# Altium schematic symbol library HW_ADHERENT_NFC_R1_L3.SchLib: 1628 symbols (part 16 of 31)
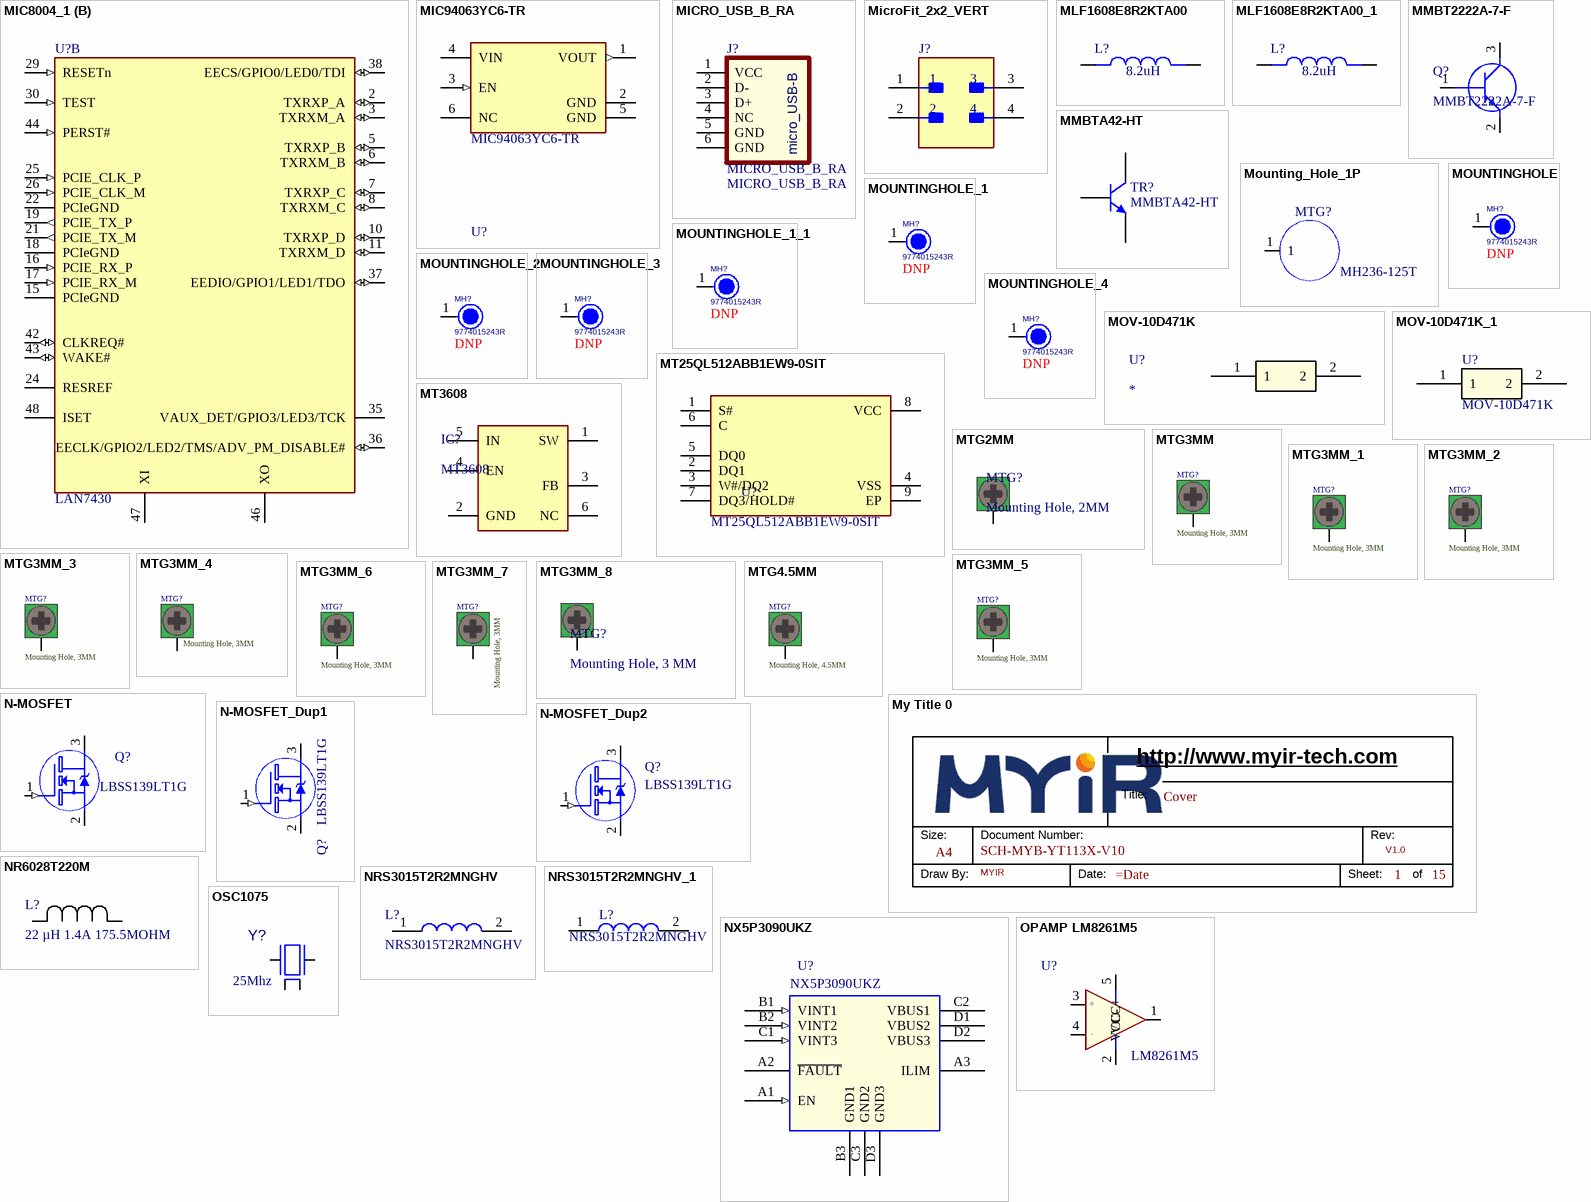
[diagram p65: symbols MIC8004_1 to OSC1075]

## My Title 0
designator *?  Page Count: 15  Page Number: 1  Page Size: A4  Title: SCH-MYB-YT113X-V10  RevCode: V1.0  Doc: Cover  Drawing: MYIR  (hidden comment: My Title 0)  (graphical)
Company: ÓÅÁú¿Æ¼¼; Page Create Date: May 29, 2006; WebSite: http://www.ucdragon.com; Page Modify Date: =Date
text: http://www.myir-tech.com; Title:; Size:; Document Number:; Rev:; Draw By:; Date:; Sheet:; of

## N-MOSFET
designator Q?, comment LBSS139LT1G
Mosfet,N-Channel,50V,0.2A,SMD,SOT-23,LRC; Myir P/N: 20703.00012; Part Type: Mosfet; Manufacturer: LRC; Manufacturer P/N: LBSS139LT1G; Reserve Value: LBSS139LT1G; Datasheet: LBSS139LT1G.pdf; PCB Footprint: SOT-23
footprint SOT23T02
footprint SOT-23
pins: 1 G (in), 2 S, 3 D (oc)

## N-MOSFET_Dup1
designator Q?, comment LBSS139LT1G
Mosfet,N-Channel,50V,0.2A,SMD,SOT-23,LRC; Myir P/N: 20703.00012; PCB Footprint: SOT-23; Datasheet: LBSS139LT1G.pdf; Reserve Value: LBSS139LT1G; Manufacturer P/N: LBSS139LT1G; Manufacturer: LRC; Part Type: Mosfet
footprint SOT23T02
footprint SOT-23
pins: 1 G (in), 2 S, 3 D (oc)

## N-MOSFET_Dup2
designator Q?, comment LBSS139LT1G
Mosfet,N-Channel,50V,0.2A,SMD,SOT-23,LRC; Myir P/N: 20703.00012; Part Type: Mosfet; Manufacturer: LRC; Manufacturer P/N: LBSS139LT1G; Reserve Value: LBSS139LT1G; Datasheet: LBSS139LT1G.pdf; PCB Footprint: SOT-23
footprint SOT23T02
footprint SOT-23
pins: 1 G (in), 2 S, 3 D (oc)

## NR6028T220M
designator L?, comment 22 µH 1.4A 175.5MOHM
22 µH Semi-Shielded Drum Core, Wirewound Inductor 1.4 A 175.5mOhm Max Nonstandard; Manufacturer_Name: Taiyo Yuden; Manufacturer_Part_Number: NR6028T220M; Copyright: Copyright (C) 2025 Ultra Librarian. All rights reserved.
footprint IND_TAIYO_NR6028_TAY
pins: 1, 2

## NRS3015T2R2MNGHV
designator L?
2.2 µH Shielded Drum Core, Wirewound Inductor 1.5 A 58mOhm Max Nonstandard; Manufacturer_Name: TAIYO YUDEN; Datasheet Link: https://componentsearchengine.com/Datasheets/1/NRS3015T2R2MNGHV.pdf; Height: 1.5mm; Manufacturer_Part_Number: NRS3015T2R2MNGHV; Mouser Part Number: 963-NRS3015T2R2MNGHV; Mouser Price/Stock: https://www.mouser.co.uk/ProductDetail/TAIYO-YUDEN/NRS3015T2R2MNGHV?qs=DpxmIIQLg%252BP8UFyXVw61Xw%3D%3D; Arrow Part Number: NRS3015T2R2MNGHV; Arrow Price/Stock: https://www.arrow.com/en/products/nrs3015t2r2mnghv/taiyo-yuden?region=nac
footprint NRS3015T2R2MNGHV
pins: 1, 2

## NRS3015T2R2MNGHV_1
designator L?, comment NRS3015T2R2MNGHV
2.2 µH Shielded Drum Core, Wirewound Inductor 1.5 A 58mOhm Max Nonstandard; Manufacturer_Name: TAIYO YUDEN; Datasheet Link: https://componentsearchengine.com/Datasheets/1/NRS3015T2R2MNGHV.pdf; Height: 1.5mm; Manufacturer_Part_Number: NRS3015T2R2MNGHV; Mouser Part Number: 963-NRS3015T2R2MNGHV; Mouser Price/Stock: https://www.mouser.co.uk/ProductDetail/TAIYO-YUDEN/NRS3015T2R2MNGHV?qs=DpxmIIQLg%252BP8UFyXVw61Xw%3D%3D; Arrow Part Number: NRS3015T2R2MNGHV; Arrow Price/Stock: https://www.arrow.com/en/products/nrs3015t2r2mnghv/taiyo-yuden?region=nac
footprint NRS3015T2R2MNGHV
pins: 1, 2

## NX5P3090UKZ
designator U?
IC,USB PD and type C current-limited power switch,SMD,WLCSP12,X5PT2,NXP; Myir P/N: 20105.00023; CLASS: IC; Part Type: Logic; Manufacturer: NXP; Manufacturer P/N: NX5P3090UKZ; Reserve Value: NX5P3090UKZ; Datasheet: NX5P3090.pdf; PCB Footprint: WLCSP12
footprint WLCSP12
pins: A1 EN (in), A2 ~{FAULT} (oc), A3 ILIM, B1 VINT1 (in), B2 VINT2 (in), B3 GND1 (power), C1 VINT3 (in), C2 VBUS1, C3 GND2 (power), D1 VBUS2, D2 VBUS3, D3 GND3 (power)

## OPAMP LM8261M5
designator U?, comment LM8261M5
Op-amp RR IO; Manufacturer: TI; Position: U?; Value: LM8261M5; Manufacturer Part Number: LM8261M5; Supplier Part Number: LM8261M5CT-ND
footprint SOT23-5
pins: 1 VOUT, 2 VCC-, 3 VIN+, 4 VIN-, 5 VCC+
text: +; -

## OSC1075
designator Y?, comment 25Mhz
CRYSTAL 25.0000MHZ 10PF SMD; Manufacturer: Abracon LLC; Manufacturer Part Number: ABM8G-25.000MHZ-4Y-T3; Value: 25Mhz; Revision: 1; Supplier Part Number: 535-10915-1-ND
footprint SMD 3.2x2.5x1mm (ABM8G-25.000MHZ-4Y-T3)
pins: 1 Osc1, 2 GND (power), 3 Osc2, 4 GND (power)
1 alternate drawing of the same symbol

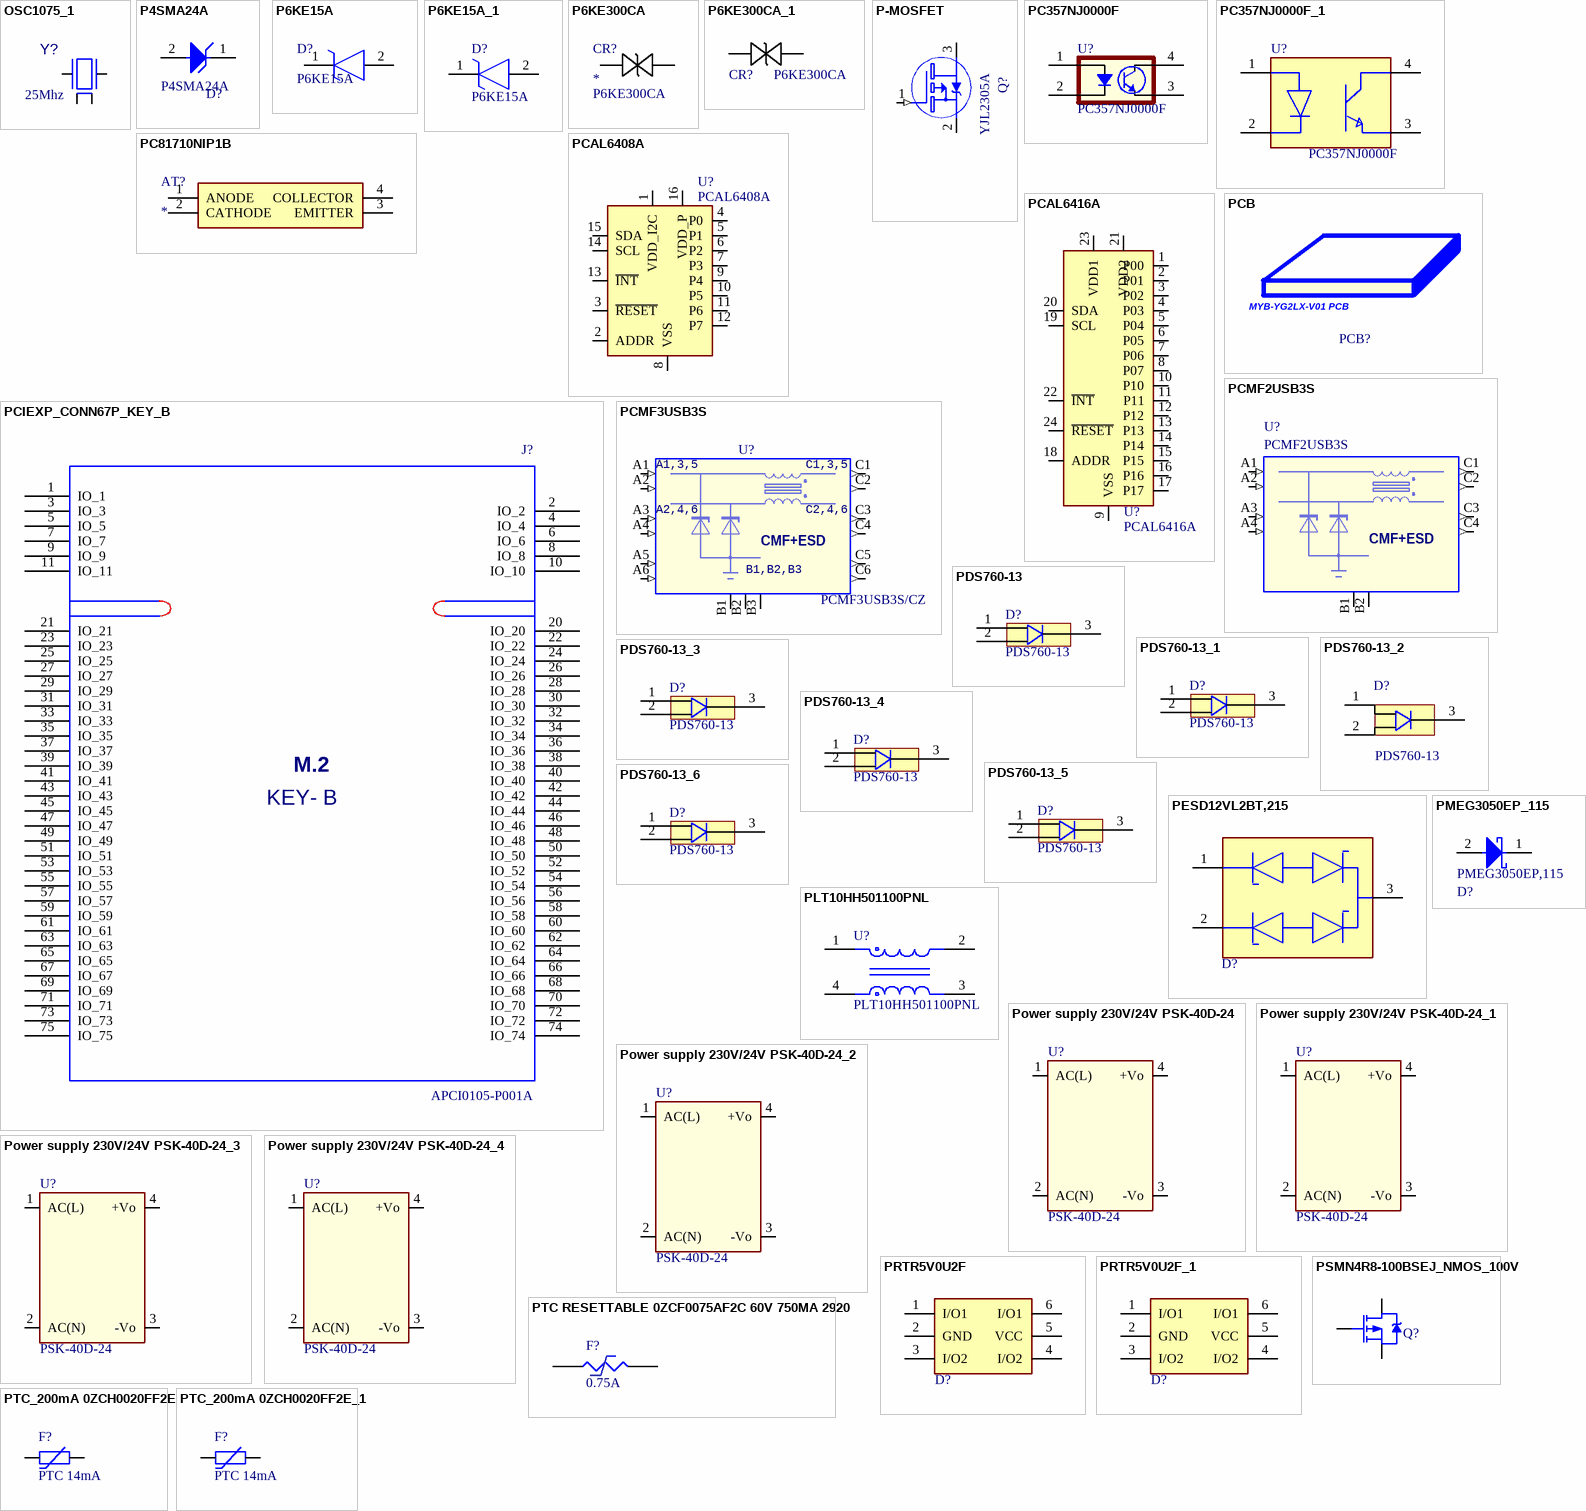
[diagram p30: symbols OSC1075_1 to PTC_200mA 0ZCH0020FF2E_1]

## OSC1075_1
designator Y?, comment 25Mhz
CRYSTAL 25.0000MHZ 10PF SMD; Manufacturer: Abracon LLC; Manufacturer Part Number: ABM8G-25.000MHZ-4Y-T3; Value: 25Mhz; Revision: 1; Supplier Part Number: 535-10915-1-ND
footprint SMD 3.2x2.5x1mm (ABM8G-25.000MHZ-4Y-T3)
pins: 1 Osc1, 2 GND (power), 3 Osc2, 4 GND (power)
1 alternate drawing of the same symbol

## P4SMA24A
designator D?, comment Manufacturer Part Number: P4SMA24A  (hidden comment: TVS DIODE 20.5VWM 33.2VC DO214AC)
33.2V Clamp 12.3A Ipp Tvs Diode Surface Mount DO-214AC (SMA); Order Code: DIGI: 18-P4SMA24ATR-ND
footprint Diodes_SMA_0
pins: 1 C, 2 A

## P6KE15A
designator D?
21.2V Clamp 28A Ipp Tvs Diode Through Hole DO-204AC (DO-15); Manufacturer_Name: STMicroelectronics; Datasheet Link: http://www.st.com/web/en/resource/technical/document/datasheet/CD00000720.pdf; Manufacturer_Part_Number: P6KE15A; Mouser Part Number: 511-P6KE15A; Mouser Price/Stock: https://www.mouser.co.uk/ProductDetail/STMicroelectronics/P6KE15A?qs=TGPpmpbSrT5hhHGF%252BJ4hqw%3D%3D; Arrow Part Number: P6KE15A; Arrow Price/Stock: https://www.arrow.com/en/products/p6ke15a/stmicroelectronics?region=nac
footprint DIOAD1936W88L640D324
pins: 1 K, 2 A

## P6KE15A_1
designator D?, comment P6KE15A
21.2V Clamp 28A Ipp Tvs Diode Through Hole DO-204AC (DO-15); Manufacturer_Name: STMicroelectronics; Datasheet Link: http://www.st.com/web/en/resource/technical/document/datasheet/CD00000720.pdf; Manufacturer_Part_Number: P6KE15A; Mouser Part Number: 511-P6KE15A; Mouser Price/Stock: https://www.mouser.co.uk/ProductDetail/STMicroelectronics/P6KE15A?qs=TGPpmpbSrT5hhHGF%252BJ4hqw%3D%3D; Arrow Part Number: P6KE15A; Arrow Price/Stock: https://www.arrow.com/en/products/p6ke15a/stmicroelectronics?region=nac
footprint DIOAD1936W88L640D324
pins: 1 K, 2 A

## P6KE300CA
designator CR?  MPN: P6KE300CA
No Description Available; Mfr_Name: STMicroelectronics
footprint DO-15B_STM
pins: 1, 2

## P6KE300CA_1
designator CR?, comment P6KE300CA
No Description Available; Mfr_Name: STMicroelectronics
footprint DO-15B_STM
pins: 1, 2

## P-MOSFET
designator Q?, comment YJL2305A
Mosfet,P-Channel,15V,70OHM,5.6A,SOT23,SMD,YangJie; RP2 Manufacturer P/N: PMV48XPA; RP1 Manufacturer P/N: IRLML6401TRPBF; RP2 Myir P/N: 20703.00014; RP1 Myir P/N: 20703.00005; Myir P/N: 20703.80039; PCB Footprint: SOT-23; Part Type: Mosfet; Manufacturer: YangJie; Manufacturer P/N: YJL2305A; Reserve Value: YJL2305A; Datasheet: YJL2305A.pdf
footprint SOT23T02
footprint SOT-23
pins: 1 G (in), 2 S, 3 D

## PC357NJ0000F
designator U?
Manufacturer: Socle Technology; Supplier 1: Digi-Key; Manufacturer Part Number: PC357NJ0000F; RoHS: No; Stock 1: 22388; Pricing 1: 1=0,83000, 10=0,53800, 100=0,35270, 1000=0,27841 (USD); Supplier Part Number 1: 1855-1023-1-ND
footprint SOIC_1TJ00F_SHP
pins: 1, 2, 3, 4

## PC357NJ0000F_1
designator U?, comment Manufacturer Part Number: PC357NJ0000F  (hidden comment: OPTOISO 3.75KV TRANSISTOR 4BESOP)
Optoisolator Transistor Output 3750Vrms 1 Channel 4-SMD; Manufacturer: SHARP/Socle Technology
footprint Sharp_PC357NJ0000F_0
pins: 1 A, 2 C, 3 E, 4 C

## PC81710NIP1B
designator AT?
Attenuator or Isolator; Manufacturer_Name: Sharp Microelectronics; Manufacturer_Part_Number: PC81710NIP1B; Datasheet Link: https://global.sharp/products/device/lineup/data/pdf/datasheet/PC8171xNSZ1B_e.pdf; Height: 4.2mm; Mouser Part Number: 852-PC81710NIP1B; Mouser Price/Stock: https://www.mouser.co.uk/ProductDetail/Sharp-Microelectronics/PC81710NIP1B?qs=MLItCLRbWswN8lAuXmPENg%3D%3D
footprint SOP254P960X420-4N
pins: 1 ANODE, 2 CATHODE, 3 EMITTER, 4 COLLECTOR

## PCAL6408A
designator U?
GPIO expander 8 IO; Manufacturer: NXP USA Inc.; Manufacturer Part Number: PCAL6408APWJ; Value: PCAL6408A; Supplier Part Number: 568-9921-1-ND
footprint TSSOP-16 (CHECKED BY NAME- 24FEB2020, CREATED BY: JE 400 040A)
pins: 1 VDD_I2C (power), 2 ADDR, 3 ~{RESET}, 4 P0, 5 P1, 6 P2, 7 P3, 8 VSS (power), 9 P4, 10 P5, 11 P6, 12 P7, 13 ~{INT}, 14 SCL, 15 SDA, 16 VDD_P (power)

## PCAL6416A
designator U?
GPIO expander 16 IO; Manufacturer: NXP; Manufacturer Part Number: PCAL6416AHF; Position: U?; Value: PCAL6416A; Supplier Part Number: 568-9946-1-ND
footprint HWQFN-24
pins: 1 P00, 2 P01, 3 P02, 4 P03, 5 P04, 6 P05, 7 P06, 8 P07, 9 VSS (power), 10 P10, 11 P11, 12 P12, 13 P13, 14 P14, 15 P15, 16 P16, 17 P17, 18 ADDR, 19 SCL, 20 SDA, 21 VDD2 (power), 22 ~{INT}, 23 VDD1 (power), 24 ~{RESET}

## PCB
designator PCB?, comment MYB-YG2LX-V01 PCB
PCB Footprint: id-board; Page: 31
footprint id-board

## PCIEXP_CONN67P_KEY_B
designator J?, comment APCI0105-P001A
Board Connector,M.2 B-KEY, M.2 Connectors, Connector Height 4.2 mm, Gold, Board-to-Board, 67 Position, 0.5mm,Lotes; CLASS: IO; Myir P/N: 21110.00027; PCB Footprint: CONN-2199230-3; Datasheet: APCI0105-H=4.2(B KEY) .pdf; Reserve Value: APCI0105-P001A; Manufacturer P/N: APCI0105-P001A; Manufacturer: Lotes; Part Type: Board Connector
footprint CONN-2199230-3
pins: 1 IO_1, 2 IO_2, 3 IO_3, 4 IO_4, 5 IO_5, 6 IO_6, 7 IO_7, 8 IO_8, 9 IO_9, 10 IO_10, 11 IO_11, 20 IO_20, 21 IO_21, 22 IO_22, 23 IO_23, 24 IO_24, 25 IO_25, 26 IO_26, 27 IO_27, 28 IO_28, 29 IO_29, 30 IO_30, 31 IO_31, 32 IO_32, 33 IO_33, 34 IO_34, 35 IO_35, 36 IO_36, 37 IO_37, 38 IO_38, 39 IO_39, 40 IO_40, 41 IO_41, 42 IO_42, 43 IO_43, 44 IO_44, 45 IO_45, 46 IO_46, 47 IO_47, 48 IO_48, 49 IO_49, 50 IO_50, 51 IO_51, 52 IO_52, 53 IO_53, 54 IO_54, 55 IO_55, 56 IO_56, 57 IO_57, 58 IO_58, 59 IO_59, 60 IO_60, 61 IO_61, 62 IO_62, 63 IO_63, 64 IO_64, 65 IO_65, 66 IO_66, 67 IO_67, 68 IO_68, 69 IO_69, 70 IO_70, 71 IO_71, 72 IO_72, 73 IO_73, 74 IO_74, 75 IO_75
text: M.2; KEY- B

## PCMF2USB3S
designator U?
IC,Common-mode EMI filter for 2 channels with integrated ESD protection,SMD,WLCSP10,PF2S,NXP; Myir P/N: 20114.00011; CLASS: IC; Datasheet: PCMFxUSB3S.pdf; Reserve Value: PCMF2USB3S; Manufacturer P/N: PCMF2USB3S; Manufacturer: NXP; Part Type: Protection; PCB Footprint: WLCSP10
footprint WLCSP10
pins: A1 CH1_IN+ (in), A2 CH1_IN- (in), A3 CH2_IN+ (in), A4 CH2_IN- (in), B1 GND_CH1 (power), B2 GND_CH2 (power), C1 CH1_OUT+ (out), C2 CH1_OUT- (out), C3 CH2_OUT+ (out), C4 CH2_OUT- (out)
text: CMF+ESD

## PCMF3USB3S
designator U?, comment PCMF3USB3S/CZ
IC,Common-mode EMI filter for 3 channels with integrated ESD protection,SMD,WLCSP15,PF3S,NXP; Myir P/N: 20114.00010; CLASS: IC; Part Type: Protection; Manufacturer: NXP; Manufacturer P/N: PCMF3USB3S/CZ; Reserve Value: PCMF3USB3S/CZ; Datasheet: PCMFxUSB3S.pdf; PCB Footprint: WLCSP15
footprint WLCSP15
pins: A1 CH1_IN+ (in), A2 CH1_IN- (in), A3 CH2_IN+ (in), A4 CH2_IN- (in), A5 CH3_IN+ (in), A6 CH3_IN- (in), B1 GND_CH1 (power), B2 GND_CH2 (power), B3 GND_CH3 (power), C1 CH1_OUT+ (out), C2 CH1_OUT- (out), C3 CH2_OUT+ (out), C4 CH2_OUT- (out), C5 CH3_OUT+ (out), C6 CH3_OUT- (out)
text: A1,3,5; C1,3,5; A2,4,6; C2,4,6; CMF+ESD; B1,B2,B3

## PDS760-13
designator D?, comment Manufacturer Part Number: PDS760-13  (hidden comment: DIODE SCHOTTKY 60V 7A POWERDI5)
Diode 60 V 7A Surface Mount PowerDI™ 5; Order Code: Digi: PDS760DITR-ND; LCSC Manufacturer Part Number: PDS760-13; LCSC Part Number: C96113
footprint POWERDI5
pins: 1 LEFT_PIN, 2 RIGHT_PIN, 3 BOTTOMSIDE_HEAT_SINK

## PDS760-13_1
designator D?, comment Manufacturer Part Number: PDS760-13  (hidden comment: DIODE SCHOTTKY 60V 7A POWERDI5)
Diode 60 V 7A Surface Mount PowerDI™ 5; Order Code: Digi: PDS760DITR-ND; LCSC Manufacturer Part Number: PDS760-13; LCSC Part Number: C96113
footprint POWERDI5
pins: 1 LEFT_PIN, 2 RIGHT_PIN, 3 BOTTOMSIDE_HEAT_SINK

## PDS760-13_2
designator D?, comment Manufacturer Part Number: PDS760-13  (hidden comment: DIODE SCHOTTKY 60V 7A POWERDI5)
Diode 60 V 7A Surface Mount PowerDI™ 5; Order Code: Digi: PDS760DITR-ND; LCSC Manufacturer Part Number: PDS760-13; LCSC Part Number: C96113
footprint POWERDI5
pins: 1 LEFT_PIN, 2 RIGHT_PIN, 3 BOTTOMSIDE_HEAT_SINK

## PDS760-13_3
designator D?, comment Manufacturer Part Number: PDS760-13  (hidden comment: DIODE SCHOTTKY 60V 7A POWERDI5)
Diode 60 V 7A Surface Mount PowerDI™ 5; Order Code: Digi: PDS760DITR-ND; LCSC Manufacturer Part Number: PDS760-13; LCSC Part Number: C96113
footprint POWERDI5
pins: 1 LEFT_PIN, 2 RIGHT_PIN, 3 BOTTOMSIDE_HEAT_SINK

## PDS760-13_4
designator D?, comment Manufacturer Part Number: PDS760-13  (hidden comment: DIODE SCHOTTKY 60V 7A POWERDI5)
Diode 60 V 7A Surface Mount PowerDI™ 5; Order Code: Digi: PDS760DITR-ND; LCSC Manufacturer Part Number: PDS760-13; LCSC Part Number: C96113
footprint POWERDI5
pins: 1 LEFT_PIN, 2 RIGHT_PIN, 3 BOTTOMSIDE_HEAT_SINK

## PDS760-13_5
designator D?, comment Manufacturer Part Number: PDS760-13  (hidden comment: DIODE SCHOTTKY 60V 7A POWERDI5)
Diode 60 V 7A Surface Mount PowerDI™ 5; Order Code: Digi: PDS760DITR-ND; LCSC Manufacturer Part Number: PDS760-13; LCSC Part Number: C96113
footprint POWERDI5
pins: 1 LEFT_PIN, 2 RIGHT_PIN, 3 BOTTOMSIDE_HEAT_SINK

## PDS760-13_6
designator D?, comment Manufacturer Part Number: PDS760-13  (hidden comment: DIODE SCHOTTKY 60V 7A POWERDI5)
Diode 60 V 7A Surface Mount PowerDI™ 5; Order Code: Digi: PDS760DITR-ND; LCSC Manufacturer Part Number: PDS760-13; LCSC Part Number: C96113
footprint POWERDI5
pins: 1 LEFT_PIN, 2 RIGHT_PIN, 3 BOTTOMSIDE_HEAT_SINK

## PESD12VL2BT,215
designator D?  (value not drawn)
37V Clamp 5A (8/20µs) Ipp Tvs Diode Surface Mount TO-236AB; Manufacturer: Nexperia USA Inc.; Manufacturer Part Number: PESD12VL2BT,215; Voltage - Clamping (Max) @ Ipp: 37V; Current - Peak Pulse (10/1000µs): 5A
footprint Nexperia_SOT23_0
pins: 1 cathode 1, 2 cathode 2, 3 double cathode

## PLT10HH501100PNL
designator U?
2 Line Common Mode Choke Surface Mount 500 Ohms @ 10 MHz 10A DCR 4.1mOhm; Manufacturer Name: Murata Electronics; Voltage Rating - DC: 100V; Manufacturer Part Number: PLT10HH501100PNL; Impedance @ Frequency: 500Ohms@10MHz; Current Rating (Max): 10A
footprint Murata_PLT10HN_MFG
pins: 1, 2, 3, 4

## PMEG3050EP_115
designator D?, comment Manufacturer Part Number: PMEG3050EP,115  (hidden comment: DIODE SCHOTTKY 30V 5A SOD128)
Diode 30 V 5A Surface Mount SOD-128/CFP5; Order Code: DIGI: 1727-5317-2-ND
footprint Nexperia_SOD128_MFG
pins: 1 C, 2 A

## Power supply 230V/24V PSK-40D-24
designator U?, comment PSK-40D-24
AC-DC, 40W, 24 VDC, SINGLE OUTPU; Manufacturer: CUI Inc.; Manufacturer Part Number: PSK-40D-24; Supplier Part Number: 102-PSK-40D-24-ND; Value: PSK-40D-24
footprint PSK-40D-24
pins: 1 AC(L), 2 AC(N), 3 -Vo, 4 +Vo

## Power supply 230V/24V PSK-40D-24_1
designator U?, comment PSK-40D-24
AC-DC, 40W, 24 VDC, SINGLE OUTPU; Manufacturer: CUI Inc.; Manufacturer Part Number: PSK-40D-24; Supplier Part Number: 102-PSK-40D-24-ND; Value: PSK-40D-24
footprint PSK-40D-24
pins: 1 AC(L), 2 AC(N), 3 -Vo, 4 +Vo

## Power supply 230V/24V PSK-40D-24_2
designator U?, comment PSK-40D-24
AC-DC, 40W, 24 VDC, SINGLE OUTPU; Manufacturer: CUI Inc.; Manufacturer Part Number: PSK-40D-24; Supplier Part Number: 102-PSK-40D-24-ND; Value: PSK-40D-24
footprint PSK-40D-24
pins: 1 AC(L), 2 AC(N), 3 -Vo, 4 +Vo

## Power supply 230V/24V PSK-40D-24_3
designator U?, comment PSK-40D-24
AC-DC, 40W, 24 VDC, SINGLE OUTPU; Manufacturer: CUI Inc.; Manufacturer Part Number: PSK-40D-24; Supplier Part Number: 102-PSK-40D-24-ND; Value: PSK-40D-24
footprint PSK-40D-24
pins: 1 AC(L), 2 AC(N), 3 -Vo, 4 +Vo

## Power supply 230V/24V PSK-40D-24_4
designator U?, comment PSK-40D-24
AC-DC, 40W, 24 VDC, SINGLE OUTPU; Manufacturer: CUI Inc.; Manufacturer Part Number: PSK-40D-24; Supplier Part Number: 102-PSK-40D-24-ND; Value: PSK-40D-24
footprint PSK-40D-24
pins: 1 AC(L), 2 AC(N), 3 -Vo, 4 +Vo

## PRTR5V0U2F
designator D?, comment SON-6(1x1.5) ESD Protection Devices ROHS  (value not drawn)
Manufacturer Part Number: PRTR5V0U2F; Order Code: LCSC: C2937001; LCSC Manufacturer Part Number: PRTR5V0U2F; LCSC Part Number: C2937001
footprint Nexperia_SOT886_MFG
pins: 1 I/O1, 2 GND, 3 I/O2, 4 I/O2, 5 VCC (power), 6 I/O1

## PRTR5V0U2F_1
designator D?, comment SON-6(1x1.5) ESD Protection Devices ROHS  (value not drawn)
Manufacturer Part Number: PRTR5V0U2F; Order Code: LCSC: C2937001; LCSC Manufacturer Part Number: PRTR5V0U2F; LCSC Part Number: C2937001
footprint Nexperia_SOT886_MFG
pins: 1 I/O1, 2 GND (power), 3 I/O2, 4 I/O2, 5 VCC (power), 6 I/O1

## PSMN4R8-100BSEJ_NMOS_100V
designator Q?, comment 100V 120A  (value not drawn)
MOSFET N-CH 100V D2PAK; Manufacturer Part Number: PSMN4R8-100BSEJ; Order Code: DIGI : 1727-1103-1-ND; Value: 100V 120A
footprint TO263-2
pins: 1 G, 2 D, 3 S

## PTC RESETTABLE 0ZCF0075AF2C 60V 750MA 2920
designator F?  value 0.75A  (hidden comment: PTC RESETTABLE 0ZCF0075AF2C 60V 750MA 2920)
Manufacturer: FUZETEC; Manufacturer Part Name: FSMD075-60-2920-R; Package Reference: 2920; Supplier: Ozdisan; Supplier No: FSMD075-60-2920-R
footprint 0ZCF_FUSE
pins: 1, 2

## PTC_200mA 0ZCH0020FF2E
designator F?, comment PTC 14mA
PTC RESET FUSE 24V 14MA 0603; Manufacturer: Murata Electronics; Manufacturer Part Number: PRG18BB221MB1RB; Position: F?; Value: PTC 14mA; Supplier Part Number: 490-2470-1-ND
footprint 1210_F (0ZCH0020FF2E)
footprint 0603_F
pins: 1, 2

## PTC_200mA 0ZCH0020FF2E_1
designator F?, comment value PTC 14mA  (hidden comment: PTC 750mA)
PTC RESET FUSE 24V 14MA 0603; Manufacturer: Murata Electronics; Manufacturer Part Number: PRG18BB221MB1RB; Position: F?; Supplier Part Number: 490-2470-1-ND
footprint 1210_F (0ZCH0020FF2E)
footprint 0603_F
pins: 1, 2

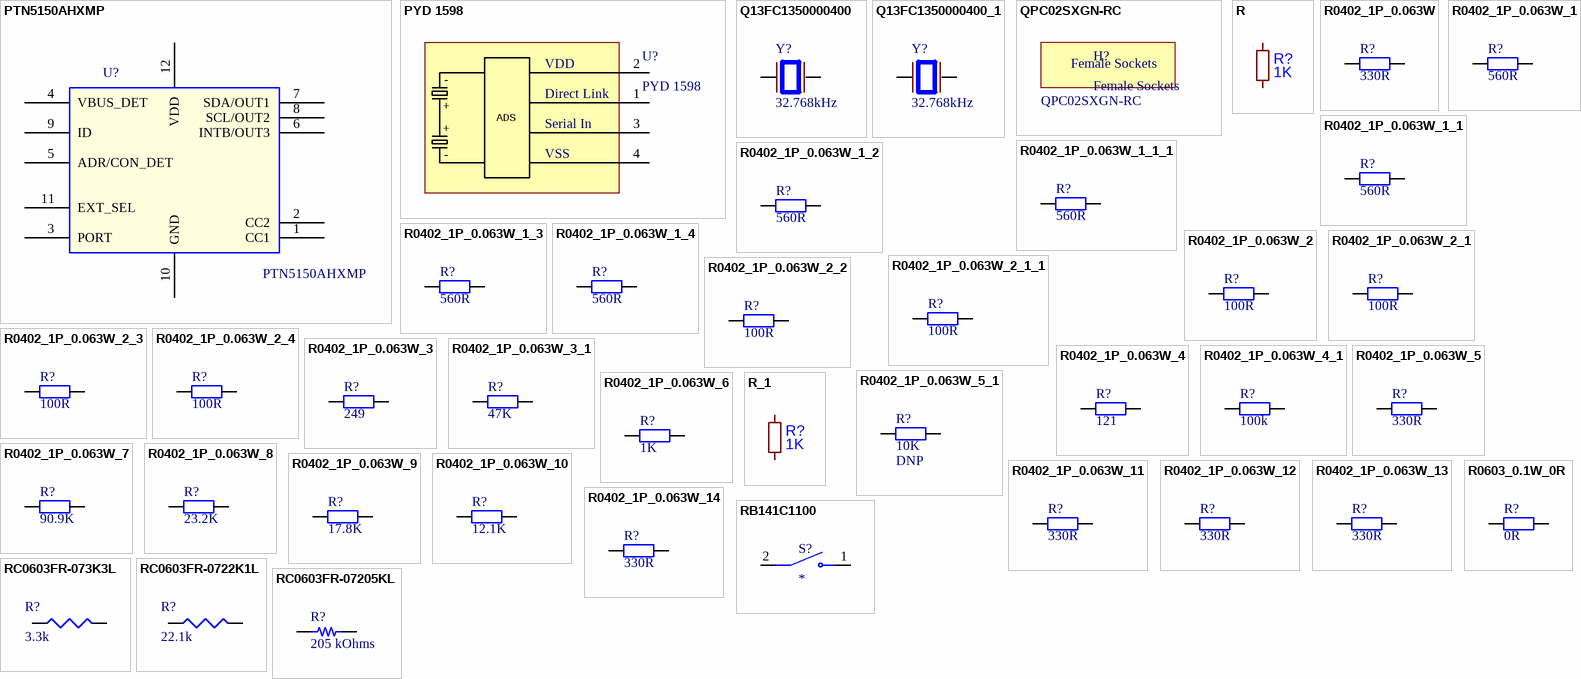
[diagram p31: symbols PTN5150AHXMP to RC0603FR-07205KL]

## PTN5150AHXMP
designator U?
IC,CC logic for USB Type-C applications,SMD,XFQFN12,50,NXP; Myir P/N: 20105.00024; PCB Footprint: x2qfn12; CLASS: IC; Datasheet: PTN5150.pdf; Reserve Value: PTN5150AHXMP; Manufacturer P/N: PTN5150AHXMP; Manufacturer: NXP; Part Type: Logic
footprint x2qfn12
pins: 1 CC1, 2 CC2, 3 PORT, 4 VBUS_DET, 5 ADR/CON_DET, 6 INTB/OUT3, 7 SDA/OUT1, 8 SCL/OUT2, 9 ID, 10 GND, 11 EXT_SEL, 12 VDD

## PYD 1598
designator U?
PYD 1598 / 7655 / 285°C temperature and a maximum of 5 seconds.; Manufacturer_Name: Excelitas Technology; Copyright: Copyright (C) 2025 Ultra Librarian. All rights reserved.; Manufacturer_Part_Number: PYD 1598 / 7655; RefDes: RefDes; Type: Type
footprint SENSE4_PYD 1598_EXT
pins: 1, 2, 3, 4
text: VDD; -; +; Direct Link; ADS; Serial In; VSS

## Q13FC1350000400
designator Y?, comment value 32.768kHz  (hidden comment: SEIKO 3215 32.768kHz CRSYTAL)
32.768kHz 12.5pF ±20ppm SMD3215-2P Crystals ROHS; Manufacturer Part Number: Q13FC1350000400; Order Code: LCSC: C32346; LCSC Manufacturer Part Number: Q13FC1350000400; LCSC Part Number: C32346
footprint XTAL_ABS07-32.768KHZ-T
pins: 1, 2

## Q13FC1350000400_1
designator Y?, comment value 32.768kHz  (hidden comment: SEIKO 3215 32.768kHz CRSYTAL)
32.768kHz 12.5pF ±20ppm SMD3215-2P Crystals ROHS; Manufacturer Part Number: Q13FC1350000400; Order Code: LCSC: C32346; LCSC Manufacturer Part Number: Q13FC1350000400; LCSC Part Number: C32346
footprint XTAL_ABS07-32.768KHZ-T
pins: 1, 2

## QPC02SXGN-RC
designator H?, comment Female Sockets  Manufacturer Part Number: QPC02SXGN-RC
Please attach it to the male 2-pin jumper header.
footprint QPC02SXGN-RC

## R
designator R?, comment 1K
RES 1K OHM 1% 1/16W 0402; Manufacturer: Yageo; Manufacturer Part Number: RC0402FR-071KL; Value: 1K; Footprint: Resistor_SMD:R_0402_1005Metric; Supplier Part Number: 311-1.00KLRCT-ND
footprint 0402_R (MODIFIED BY DN_MH - 16JAN17;CHECKED BY DN_TN - 18JAN17;CHECKED BY DN_QN - 20FEB19)
pins: 1, 2

## R0402_1P_0.063W
designator R?, comment 330R
RES 330 OHM 1% 1/16W 0402; Manufacturer: YAGEO; Manufacturer Part Number: RC0402FR-07330RL; Value: 330R; Supplier Part Number: 311-330LRCT-ND
footprint 0402_R (MODIFIED BY DN_MH - 16JAN17;CHECKED BY DN_TN - 18JAN17;CHECKED BY DN_QN - 20FEB19)
pins: 1, 2

## R0402_1P_0.063W_1
designator R?, comment 560R
RES 560 OHM 1% 1/16W 0402; Manufacturer: Yageo; Manufacturer Part Number: RC0402FR-07560RL; Value: 560R; Supplier Part Number: 311-560LRCT-ND
footprint 0402_R (MODIFIED BY DN_MH - 16JAN17;CHECKED BY DN_TN - 18JAN17;CHECKED BY DN_QN - 20FEB19)
pins: 1, 2

## R0402_1P_0.063W_1_1
designator R?, comment 560R
RES 560 OHM 1% 1/16W 0402; Manufacturer: Yageo; Manufacturer Part Number: RC0402FR-07560RL; Value: 560R; Supplier Part Number: 311-560LRCT-ND
footprint 0402_R (MODIFIED BY DN_MH - 16JAN17;CHECKED BY DN_TN - 18JAN17;CHECKED BY DN_QN - 20FEB19)
pins: 1, 2

## R0402_1P_0.063W_1_1_1
designator R?, comment 560R
RES 560 OHM 1% 1/16W 0402; Manufacturer: Yageo; Manufacturer Part Number: RC0402FR-07560RL; Value: 560R; Supplier Part Number: 311-560LRCT-ND
footprint 0402_R (MODIFIED BY DN_MH - 16JAN17;CHECKED BY DN_TN - 18JAN17;CHECKED BY DN_QN - 20FEB19)
pins: 1, 2

## R0402_1P_0.063W_1_2
designator R?, comment 560R
RES 560 OHM 1% 1/16W 0402; Manufacturer: Yageo; Manufacturer Part Number: RC0402FR-07560RL; Value: 560R; Supplier Part Number: 311-560LRCT-ND
footprint 0402_R (MODIFIED BY DN_MH - 16JAN17;CHECKED BY DN_TN - 18JAN17;CHECKED BY DN_QN - 20FEB19)
pins: 1, 2

## R0402_1P_0.063W_1_3
designator R?, comment 560R
RES 560 OHM 1% 1/16W 0402; Manufacturer: Yageo; Manufacturer Part Number: RC0402FR-07560RL; Value: 560R; Supplier Part Number: 311-560LRCT-ND
footprint 0402_R (MODIFIED BY DN_MH - 16JAN17;CHECKED BY DN_TN - 18JAN17;CHECKED BY DN_QN - 20FEB19)
pins: 1, 2

## R0402_1P_0.063W_1_4
designator R?, comment 560R
RES 560 OHM 1% 1/16W 0402; Manufacturer: Yageo; Manufacturer Part Number: RC0402FR-07560RL; Supplier Part Number: 311-560LRCT-ND; Value: 560R
footprint 0402_R (MODIFIED BY DN_MH - 16JAN17;CHECKED BY DN_TN - 18JAN17;CHECKED BY DN_QN - 20FEB19)
pins: 1, 2

## R0402_1P_0.063W_2
designator R?, comment 100R
RES 100 OHM 1% 1/16W 0402; Manufacturer: Yageo; Manufacturer Part Number: RC0402FR-07100RL; Supplier Part Number: 311-100LRCT-ND; Value: 100R
footprint 0402_R (MODIFIED BY DN_MH - 16JAN17;CHECKED BY DN_TN - 18JAN17;CHECKED BY DN_QN - 20FEB19)
pins: 1, 2

## R0402_1P_0.063W_2_1
designator R?, comment 100R
RES 100 OHM 1% 1/16W 0402; Manufacturer: Yageo; Manufacturer Part Number: RC0402FR-07100RL; Value: 100R; Supplier Part Number: 311-100LRCT-ND
footprint 0402_R (MODIFIED BY DN_MH - 16JAN17;CHECKED BY DN_TN - 18JAN17;CHECKED BY DN_QN - 20FEB19)
pins: 1, 2

## R0402_1P_0.063W_2_1_1
designator R?, comment 100R
RES 100 OHM 1% 1/16W 0402; Manufacturer: Yageo; Manufacturer Part Number: RC0402FR-07100RL; Value: 100R; Supplier Part Number: 311-100LRCT-ND
footprint 0402_R (MODIFIED BY DN_MH - 16JAN17;CHECKED BY DN_TN - 18JAN17;CHECKED BY DN_QN - 20FEB19)
pins: 1, 2

## R0402_1P_0.063W_2_2
designator R?, comment 100R
RES 100 OHM 1% 1/16W 0402; Manufacturer: Yageo; Manufacturer Part Number: RC0402FR-07100RL; Value: 100R; Supplier Part Number: 311-100LRCT-ND
footprint 0402_R (MODIFIED BY DN_MH - 16JAN17;CHECKED BY DN_TN - 18JAN17;CHECKED BY DN_QN - 20FEB19)
pins: 1, 2

## R0402_1P_0.063W_2_3
designator R?, comment 100R
RES 100 OHM 1% 1/16W 0402; Manufacturer: Yageo; Manufacturer Part Number: RC0402FR-07100RL; Value: 100R; Supplier Part Number: 311-100LRCT-ND
footprint 0402_R (MODIFIED BY DN_MH - 16JAN17;CHECKED BY DN_TN - 18JAN17;CHECKED BY DN_QN - 20FEB19)
pins: 1, 2

## R0402_1P_0.063W_2_4
designator R?, comment 100R
RES 100 OHM 1% 1/16W 0402; Manufacturer: Yageo; Manufacturer Part Number: RC0402FR-07100RL; Value: 100R; Supplier Part Number: 311-100LRCT-ND
footprint 0402_R (MODIFIED BY DN_MH - 16JAN17;CHECKED BY DN_TN - 18JAN17;CHECKED BY DN_QN - 20FEB19)
pins: 1, 2

## R0402_1P_0.063W_3
designator R?, comment value 249  (hidden comment: 241)
RES 249 OHM 1% 1/16W 0402; Manufacturer: Stackpole Electronics Inc; Manufacturer Part Number: RMCF0402FT249R; Supplier Part Number: RMCF0402FT249RCT-ND
footprint 0402_R (MODIFIED BY DN_MH - 16JAN17;CHECKED BY DN_TN - 18JAN17;CHECKED BY DN_QN - 20FEB19)
pins: 1, 2

## R0402_1P_0.063W_3_1
designator R?, comment 47K
RES 47K OHM 1% 1/16W 0402; Manufacturer: Yageo; Manufacturer Part Number: RC0402FR-0747KL; Value: 47K; Supplier Part Number: 311-47.0KLRCT-ND
footprint 0402_R (MODIFIED BY DN_MH - 16JAN17;CHECKED BY DN_TN - 18JAN17;CHECKED BY DN_QN - 20FEB19)
pins: 1, 2

## R0402_1P_0.063W_4
designator R?, comment 121
RES 121 OHM 1% 1/4W 1206; Manufacturer: Yageo; Manufacturer Part Number: RC1206FR-07121RL; Value: 121; Supplier Part Number: 311-121FRCT-ND
footprint 1206_R
pins: 1, 2

## R0402_1P_0.063W_4_1
designator R?, comment 100k
RES 100K OHM 1% 1/16W 0402; Manufacturer: Yageo; Manufacturer Part Number: RC0402FR-07100KL; Position: R?; Value: 100k; Supplier Part Number: 311-100KLRCT-ND
footprint 0402_R (MODIFIED BY DN_MH - 16JAN17;CHECKED BY DN_TN - 18JAN17;CHECKED BY DN_QN - 20FEB19)
pins: 1, 2

## R0402_1P_0.063W_5
designator R?, comment 330R
RES 330 OHM 1% 1/16W 0402; Manufacturer: YAGEO; Manufacturer Part Number: RC0402FR-07330RL; Value: 330R; Supplier Part Number: 311-330LRCT-ND
footprint 0402_R (MODIFIED BY DN_MH - 16JAN17;CHECKED BY DN_TN - 18JAN17;CHECKED BY DN_QN - 20FEB19)
pins: 1, 2

## R0402_1P_0.063W_5_1
designator R?, comment 10K
RES 10K OHM 1% 1/16W 0402; Manufacturer: Yageo; Manufacturer Part Number: RC0402FR-0710KL; Value: 10K; DNP: DNP; Supplier Part Number: 311-10.0KLRCT-ND
footprint 0402_R (MODIFIED BY DN_MH - 16JAN17;CHECKED BY DN_TN - 18JAN17;CHECKED BY DN_QN - 20FEB19)
pins: 1, 2

## R0402_1P_0.063W_6
designator R?, comment 1K
RES 1K OHM 1% 1/16W 0402; Manufacturer: Yageo; Manufacturer Part Number: RC0402FR-071KL; Value: 1K; Supplier Part Number: 311-1.00KLRCT-ND
footprint 0402_R (MODIFIED BY DN_MH - 16JAN17;CHECKED BY DN_TN - 18JAN17;CHECKED BY DN_QN - 20FEB19)
pins: 1, 2

## R0402_1P_0.063W_7
designator R?, comment 90.9K
RES 90.9K OHM 1% 1/16W 0402; Manufacturer: YAGEO; Manufacturer Part Number: RC0402FR-0790K9L; Value: 90.9K; Supplier Part Number: 311-90.9KLRCT-ND
footprint 0402_R (MODIFIED BY DN_MH - 16JAN17;CHECKED BY DN_TN - 18JAN17;CHECKED BY DN_QN - 20FEB19)
pins: 1, 2

## R0402_1P_0.063W_8
designator R?, comment 23.2K
RES 23.2K OHM 1% 1/16W 0402; Manufacturer: YAGEO; Manufacturer Part Number: RC0402FR-0723K2L; Supplier Part Number: YAG3066CT-ND
footprint 0402_R (MODIFIED BY DN_MH - 16JAN17;CHECKED BY DN_TN - 18JAN17;CHECKED BY DN_QN - 20FEB19)
pins: 1, 2

## R0402_1P_0.063W_9
designator R?, comment 17.8K
RES 17.8K OHM 1% 1/16W 0402; Manufacturer: RC0402FR-0717K8L; Manufacturer Part Number: RC0402FR-0717K8L; Supplier Part Number: YAG3012CT-ND
footprint 0402_R (MODIFIED BY DN_MH - 16JAN17;CHECKED BY DN_TN - 18JAN17;CHECKED BY DN_QN - 20FEB19)
pins: 1, 2

## R0402_1P_0.063W_10
designator R?, comment 12.1K
RES 12.1K OHM 1% 1/16W 0402; Manufacturer: YAGEO; Manufacturer Part Number: RC0402FR-0712K1L; Supplier Part Number: 311-12.1KLRCT-ND
footprint 0402_R (MODIFIED BY DN_MH - 16JAN17;CHECKED BY DN_TN - 18JAN17;CHECKED BY DN_QN - 20FEB19)
pins: 1, 2

## R0402_1P_0.063W_11
designator R?, comment 330R
RES 330 OHM 1% 1/16W 0402; Manufacturer: YAGEO; Manufacturer Part Number: RC0402FR-07330RL; Value: 330R; Supplier Part Number: 311-330LRCT-ND
footprint 0402_R (MODIFIED BY DN_MH - 16JAN17;CHECKED BY DN_TN - 18JAN17;CHECKED BY DN_QN - 20FEB19)
pins: 1, 2

## R0402_1P_0.063W_12
designator R?, comment 330R
RES 330 OHM 1% 1/16W 0402; Manufacturer: YAGEO; Manufacturer Part Number: RC0402FR-07330RL; Value: 330R; Supplier Part Number: 311-330LRCT-ND
footprint 0402_R (MODIFIED BY DN_MH - 16JAN17;CHECKED BY DN_TN - 18JAN17;CHECKED BY DN_QN - 20FEB19)
pins: 1, 2

## R0402_1P_0.063W_13
designator R?, comment 330R
RES 330 OHM 1% 1/16W 0402; Manufacturer: YAGEO; Manufacturer Part Number: RC0402FR-07330RL; Value: 330R; Supplier Part Number: 311-330LRCT-ND
footprint 0402_R (MODIFIED BY DN_MH - 16JAN17;CHECKED BY DN_TN - 18JAN17;CHECKED BY DN_QN - 20FEB19)
pins: 1, 2

## R0402_1P_0.063W_14
designator R?, comment 330R
RES 330 OHM 1% 1/16W 0402; Manufacturer: YAGEO; Manufacturer Part Number: RC0402FR-07330RL; Value: 330R; Supplier Part Number: 311-330LRCT-ND
footprint 0402_R (MODIFIED BY DN_MH - 16JAN17;CHECKED BY DN_TN - 18JAN17;CHECKED BY DN_QN - 20FEB19)
pins: 1, 2

## R0603_0.1W_0R
designator R?, comment 0R
RES 0 OHM JUMPER 1/16W 0402; Manufacturer: Yageo; Manufacturer Part Number: RC0402FR-070RL; Position: R?; Value: 0R; Supplier Part Number: 311-0.0LRCT-ND
footprint 0603_R (R0603)
footprint 0402_R
pins: 1, 2

## R_1
designator R?, comment 1K
RES 1K OHM 1% 1/16W 0402; Manufacturer: Yageo; Manufacturer Part Number: RC0402FR-071KL; Value: 1K; Footprint: Resistor_SMD:R_0402_1005Metric; Supplier Part Number: 311-1.00KLRCT-ND
footprint 0402_R (MODIFIED BY DN_MH - 16JAN17;CHECKED BY DN_TN - 18JAN17;CHECKED BY DN_QN - 20FEB19)
pins: 1, 2

## RB141C1100
designator S?
Rocker Switches 15A 125VAC, OFF-ON, Black Rocker, No Markings; MF: e-switch inc; MP: RB141C1100; SnapEDA_Link: https://www.snapeda.com/parts/RB141C1100/E-Switch/view-part/?ref=snap; Package: None; Value: *; Check_prices: https://www.snapeda.com/parts/RB141C1100/E-Switch/view-part/?ref=eda
footprint SW_RB141C1100
pins: 1, 2

## RC0603FR-073K3L
designator R?, comment 3.3k
3.3 kOhms ±1% 0.1W, 1/10W Chip Resistor 0603 (1608 Metric) Moisture Resistant Thick Film; Manufacturer Part Number: RC0603FR-073K3L; Supplier: 311-3.30KHRDKR-ND - Digi-Reel®
footprint RES0603
pins: 1, 2

## RC0603FR-0722K1L
designator R?, comment 22.1k
22.1 kOhms ±1% 0.1W, 1/10W Chip Resistor 0603 (1608 Metric) Moisture Resistant Thick Film
footprint RES0603
pins: 1, 2

## RC0603FR-07205KL
designator R?, comment 205 kOhms
RES 205K OHM 1% 1/10W 0603; Part Number: RC0603FR-07205KL; Manufacturer: Yageo; Power (Watts): 0.1W, 1/10W; Temperature Coefficient: ±100ppm/°C; Value: 205 kOhms; ComponentLink1Description: Datasheet; ComponentLink1URL: https://www.yageo.com/upload/media/product/productsearch/datasheet/rchip/PYu-RC_Group_51_RoHS_L_10.pdf; ComponentLink2Description: DigiKey Link; ComponentLink2URL: https://www.digikey.com/en/products/detail/yageo/RC0603FR-07205KL/727046; Composition: Thick Film; Device Package: 0603 (1608 Metric); Features: Moisture Resistant; Height - Seated (Max): 0.022" (0.55mm); LastUpdated: 2/9/2024 8:43:26 PM; Lifecycle Status: Active; Minimum Order: 1; Number of Terminations: 2; Operating Temperature: -55°C ~ 155°C; Package / Case: 0603 (1608 Metric); Packaging: CutTape; PartId: 7579; Part Status: Active; Price: 0.01; Resistance: 205 kOhms; Series: RC_L; Size / Dimension: 0.063" L x 0.031" W (1.60mm x 0.80mm); Supplier 1: DigiKey; Supplier Part Number 1: 311-205KHRCT-ND; Supplier Device Package: 0603; Tolerance: ±1%
footprint RES 0603_1608
pins: 1, 2

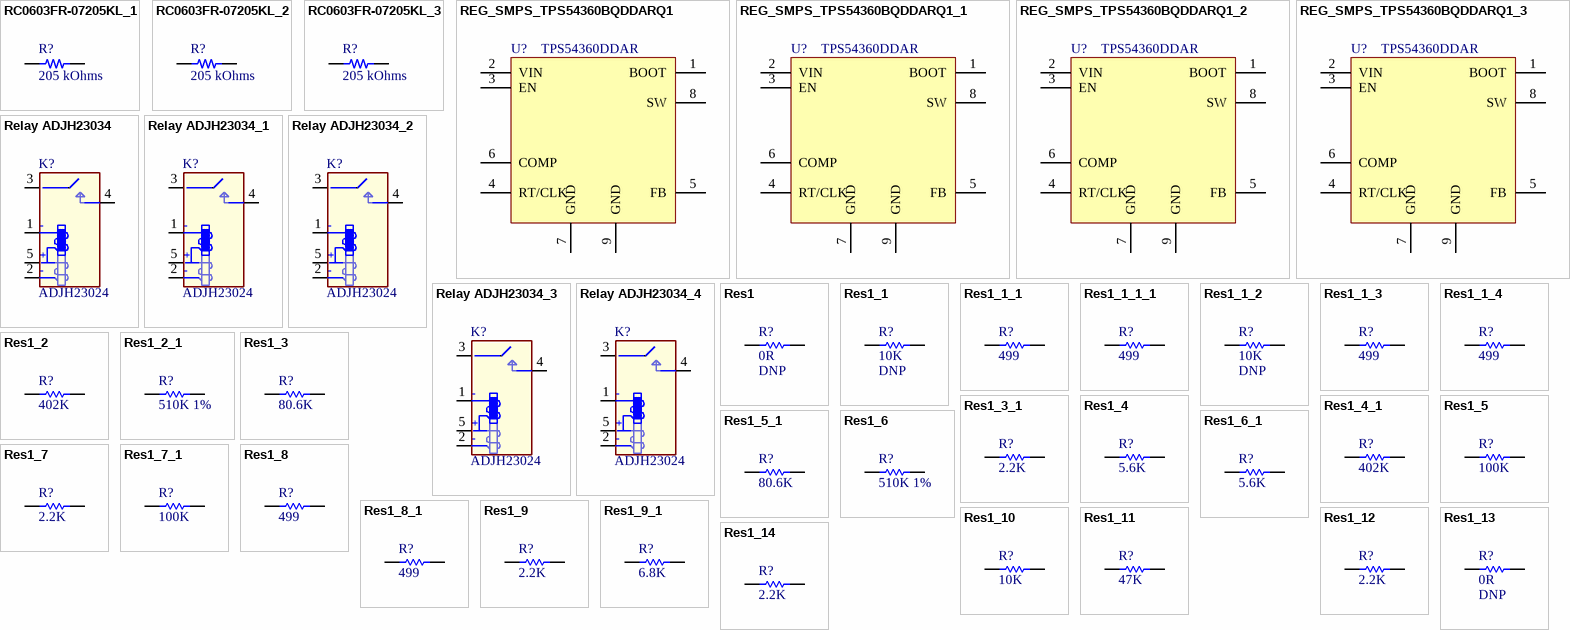
[diagram p32: symbols RC0603FR-07205KL_1 to Res1_14]

## RC0603FR-07205KL_1
designator R?, comment 205 kOhms
RES 205K OHM 1% 1/10W 0603; Part Number: RC0603FR-07205KL; Manufacturer: Yageo; Power (Watts): 0.1W, 1/10W; Temperature Coefficient: ±100ppm/°C; Value: 205 kOhms; ComponentLink1Description: Datasheet; ComponentLink1URL: https://www.yageo.com/upload/media/product/productsearch/datasheet/rchip/PYu-RC_Group_51_RoHS_L_10.pdf; ComponentLink2Description: DigiKey Link; ComponentLink2URL: https://www.digikey.com/en/products/detail/yageo/RC0603FR-07205KL/727046; Composition: Thick Film; Device Package: 0603 (1608 Metric); Features: Moisture Resistant; Height - Seated (Max): 0.022" (0.55mm); LastUpdated: 2/9/2024 8:43:26 PM; Lifecycle Status: Active; Minimum Order: 1; Number of Terminations: 2; Operating Temperature: -55°C ~ 155°C; Package / Case: 0603 (1608 Metric); Packaging: CutTape; PartId: 7579; Part Status: Active; Price: 0.01; Resistance: 205 kOhms; Series: RC_L; Size / Dimension: 0.063" L x 0.031" W (1.60mm x 0.80mm); Supplier 1: DigiKey; Supplier Part Number 1: 311-205KHRCT-ND; Supplier Device Package: 0603; Tolerance: ±1%
footprint RES 0603_1608
pins: 1, 2

## RC0603FR-07205KL_2
designator R?, comment 205 kOhms
RES 205K OHM 1% 1/10W 0603; Part Number: RC0603FR-07205KL; Manufacturer: Yageo; Power (Watts): 0.1W, 1/10W; Temperature Coefficient: ±100ppm/°C; Value: 205 kOhms; ComponentLink1Description: Datasheet; ComponentLink1URL: https://www.yageo.com/upload/media/product/productsearch/datasheet/rchip/PYu-RC_Group_51_RoHS_L_10.pdf; ComponentLink2Description: DigiKey Link; ComponentLink2URL: https://www.digikey.com/en/products/detail/yageo/RC0603FR-07205KL/727046; Composition: Thick Film; Device Package: 0603 (1608 Metric); Features: Moisture Resistant; Height - Seated (Max): 0.022" (0.55mm); LastUpdated: 2/9/2024 8:43:26 PM; Lifecycle Status: Active; Minimum Order: 1; Number of Terminations: 2; Operating Temperature: -55°C ~ 155°C; Package / Case: 0603 (1608 Metric); Packaging: CutTape; PartId: 7579; Part Status: Active; Price: 0.01; Resistance: 205 kOhms; Series: RC_L; Size / Dimension: 0.063" L x 0.031" W (1.60mm x 0.80mm); Supplier 1: DigiKey; Supplier Part Number 1: 311-205KHRCT-ND; Supplier Device Package: 0603; Tolerance: ±1%
footprint RES 0603_1608
pins: 1, 2

## RC0603FR-07205KL_3
designator R?, comment 205 kOhms
RES 205K OHM 1% 1/10W 0603; Part Number: RC0603FR-07205KL; Manufacturer: Yageo; Power (Watts): 0.1W, 1/10W; Temperature Coefficient: ±100ppm/°C; Value: 205 kOhms; ComponentLink1Description: Datasheet; ComponentLink1URL: https://www.yageo.com/upload/media/product/productsearch/datasheet/rchip/PYu-RC_Group_51_RoHS_L_10.pdf; ComponentLink2Description: DigiKey Link; ComponentLink2URL: https://www.digikey.com/en/products/detail/yageo/RC0603FR-07205KL/727046; Composition: Thick Film; Device Package: 0603 (1608 Metric); Features: Moisture Resistant; Height - Seated (Max): 0.022" (0.55mm); LastUpdated: 2/9/2024 8:43:26 PM; Lifecycle Status: Active; Minimum Order: 1; Number of Terminations: 2; Operating Temperature: -55°C ~ 155°C; Package / Case: 0603 (1608 Metric); Packaging: CutTape; PartId: 7579; Part Status: Active; Price: 0.01; Resistance: 205 kOhms; Series: RC_L; Size / Dimension: 0.063" L x 0.031" W (1.60mm x 0.80mm); Supplier 1: DigiKey; Supplier Part Number 1: 311-205KHRCT-ND; Supplier Device Package: 0603; Tolerance: ±1%
footprint RES 0603_1608
pins: 1, 2

## REG_SMPS_TPS54360BQDDARQ1
designator U?, comment P/N: TPS54360DDAR  (hidden comment: 3.5A)
IC REG BCK SPLIT RAIL ADJ 8SOPWR; Order Code: Win Source :  034122-TPS54360DDAR; Value: 5A
footprint S8E_LT (8-Lead Plastic SOIC (Narrow .150 Inch) Exposed Pad)
pins: 1 BOOT, 2 VIN, 3 EN, 4 RT/CLK, 5 FB, 6 COMP, 7 GND, 8 SW, 9 GND

## REG_SMPS_TPS54360BQDDARQ1_1
designator U?, comment P/N: TPS54360DDAR  (hidden comment: 3.5A)
IC REG BCK SPLIT RAIL ADJ 8SOPWR; Order Code: Win Source :  034122-TPS54360DDAR; Value: 5A
footprint S8E_LT (8-Lead Plastic SOIC (Narrow .150 Inch) Exposed Pad)
pins: 1 BOOT, 2 VIN, 3 EN, 4 RT/CLK, 5 FB, 6 COMP, 7 GND, 8 SW, 9 GND

## REG_SMPS_TPS54360BQDDARQ1_2
designator U?, comment P/N: TPS54360DDAR  (hidden comment: 3.5A)
IC REG BCK SPLIT RAIL ADJ 8SOPWR; Order Code: Win Source :  034122-TPS54360DDAR; Value: 5A
footprint S8E_LT (8-Lead Plastic SOIC (Narrow .150 Inch) Exposed Pad)
pins: 1 BOOT, 2 VIN, 3 EN, 4 RT/CLK, 5 FB, 6 COMP, 7 GND, 8 SW, 9 GND

## REG_SMPS_TPS54360BQDDARQ1_3
designator U?, comment P/N: TPS54360DDAR  (hidden comment: 3.5A)
IC REG BCK SPLIT RAIL ADJ 8SOPWR; Order Code: Win Source :  034122-TPS54360DDAR; Value: 5A
footprint S8E_LT (8-Lead Plastic SOIC (Narrow .150 Inch) Exposed Pad)
pins: 1 BOOT, 2 VIN, 3 EN, 4 RT/CLK, 5 FB, 6 COMP, 7 GND, 8 SW, 9 GND

## Relay ADJH23034
designator K?, comment ADJH23024
RELAY GEN PURPOSE SPST 50A 24V; Manufacturer: Panasonic Electric Works; Value: ADJH23024; Manufacturer Part Number: ADJH23024; Supplier Part Number: 255-5732-ND
footprint THD 39.0X15.0X30.2MM (ADJH23024)
pins: 1, 2, 3, 4, 5
text: -; +

## Relay ADJH23034_1
designator K?, comment ADJH23024
RELAY GEN PURPOSE SPST 50A 24V; Manufacturer: Panasonic Electric Works; Value: ADJH23024; Manufacturer Part Number: ADJH23024; Supplier Part Number: 255-5732-ND
footprint THD 39.0X15.0X30.2MM (ADJH23024)
pins: 1, 2, 3, 4, 5
text: -; +

## Relay ADJH23034_2
designator K?, comment ADJH23024
RELAY GEN PURPOSE SPST 50A 24V; Manufacturer: Panasonic Electric Works; Value: ADJH23024; Manufacturer Part Number: ADJH23024; Supplier Part Number: 255-5732-ND
footprint THD 39.0X15.0X30.2MM (ADJH23024)
pins: 1, 2, 3, 4, 5
text: -; +

## Relay ADJH23034_3
designator K?, comment ADJH23024
RELAY GEN PURPOSE SPST 50A 24V; Manufacturer: Panasonic Electric Works; Value: ADJH23024; Manufacturer Part Number: ADJH23024; Supplier Part Number: 255-5732-ND
footprint THD 39.0X15.0X30.2MM (ADJH23024)
pins: 1, 2, 3, 4, 5
text: -; +

## Relay ADJH23034_4
designator K?, comment ADJH23024
RELAY GEN PURPOSE SPST 50A 24V; Manufacturer: Panasonic Electric Works; Value: ADJH23024; Manufacturer Part Number: ADJH23024; Supplier Part Number: 255-5732-ND
footprint THD 39.0X15.0X30.2MM (ADJH23024)
pins: 1, 2, 3, 4, 5
text: -; +

## Res1
designator R?, comment 0R
RES 0 OHM JUMPER 1/16W 0402; Manufacturer Part Number: RC0402FR-070RL; Manufacturer: Yageo; Value: 0R; DNP: DNP; Supplier Part Number: 311-0.0LRCT-ND
footprint 0402_R (MODIFIED BY DN_MH - 16JAN17;CHECKED BY DN_TN - 18JAN17;CHECKED BY DN_QN - 20FEB19)
pins: 1, 2

## Res1_1
designator R?, comment 10K
RES 10K OHM 1% 1/16W 0402; Manufacturer Part Number: RC0402FR-0710KL; Manufacturer: Yageo; Value: 10K; Supplier Part Number: 311-10.0KLRCT-ND; DNP: DNP
footprint 0402_R (MODIFIED BY DN_MH - 16JAN17;CHECKED BY DN_TN - 18JAN17;CHECKED BY DN_QN - 20FEB19)
pins: 1, 2

## Res1_1_1
designator R?, comment 499
RES 499 OHM 1% 1/16W 0402; Manufacturer Part Number: RC0402FR-07499RL; Manufacturer: Yageo; Value: 499; Supplier Part Number: 311-499LRCT-ND
footprint 0402_R (MODIFIED BY DN_MH - 16JAN17;CHECKED BY DN_TN - 18JAN17;CHECKED BY DN_QN - 20FEB19)
pins: 1, 2

## Res1_1_1_1
designator R?, comment 499
RES 499 OHM 1% 1/16W 0402; Manufacturer Part Number: RC0402FR-07499RL; Manufacturer: Yageo; Value: 499; Supplier Part Number: 311-499LRCT-ND
footprint 0402_R (MODIFIED BY DN_MH - 16JAN17;CHECKED BY DN_TN - 18JAN17;CHECKED BY DN_QN - 20FEB19)
pins: 1, 2

## Res1_1_2
designator R?, comment 10K
RES 10K OHM 1% 1/16W 0402; Manufacturer Part Number: RC0402FR-0710KL; Manufacturer: Yageo; Value: 10K; Supplier Part Number: 311-10.0KLRCT-ND; DNP: DNP
footprint 0402_R (MODIFIED BY DN_MH - 16JAN17;CHECKED BY DN_TN - 18JAN17;CHECKED BY DN_QN - 20FEB19)
pins: 1, 2

## Res1_1_3
designator R?, comment 499
RES 499 OHM 1% 1/16W 0402; Manufacturer Part Number: RC0402FR-07499RL; Manufacturer: Yageo; Value: 499; Supplier Part Number: 311-499LRCT-ND
footprint 0402_R (MODIFIED BY DN_MH - 16JAN17;CHECKED BY DN_TN - 18JAN17;CHECKED BY DN_QN - 20FEB19)
pins: 1, 2

## Res1_1_4
designator R?, comment 499
RES 499 OHM 1% 1/16W 0402; Manufacturer Part Number: RC0402FR-07499RL; Manufacturer: Yageo; Value: 499; Supplier Part Number: 311-499LRCT-ND
footprint 0402_R (MODIFIED BY DN_MH - 16JAN17;CHECKED BY DN_TN - 18JAN17;CHECKED BY DN_QN - 20FEB19)
pins: 1, 2

## Res1_2
designator R?, comment 402K
RES 402K OHM 1% 1/16W 0402; Manufacturer Part Number: RC0402FR-07402KL; Manufacturer: Yageo; Value: 402K; Supplier Part Number: YAG3151CT-ND
footprint 0402_R (MODIFIED BY DN_MH - 16JAN17;CHECKED BY DN_TN - 18JAN17;CHECKED BY DN_QN - 20FEB19)
pins: 1, 2

## Res1_2_1
designator R?, comment 510K 1%
RES 510K OHM 1% 1/16W 0402; Manufacturer Part Number: RC0402FR-07510KL; Manufacturer: Yageo; Value: 510K 1%; Supplier Part Number: 311-510KLRCT-ND
footprint 0402_R (MODIFIED BY DN_MH - 16JAN17;CHECKED BY DN_TN - 18JAN17;CHECKED BY DN_QN - 20FEB19)
pins: 1, 2

## Res1_3
designator R?, comment 80.6K
RES 80.6K OHM 1% 1/16W 0402; Manufacturer Part Number: RC0402FR-0780K6L; Manufacturer: Yageo; Value: 80.6K; Supplier Part Number: 311-80.6KLRCT-ND
footprint 0402_R (MODIFIED BY DN_MH - 16JAN17;CHECKED BY DN_TN - 18JAN17;CHECKED BY DN_QN - 20FEB19)
pins: 1, 2

## Res1_3_1
designator R?, comment 2.2K
RES 2.2K OHM 1% 1/16W 0402; Manufacturer Part Number: RC0402FR-072K2L; Manufacturer: Yageo; Value: 2.2K; Supplier Part Number: 311-2.20KLRCT-ND
footprint 0402_R (MODIFIED BY DN_MH - 16JAN17;CHECKED BY DN_TN - 18JAN17;CHECKED BY DN_QN - 20FEB19)
pins: 1, 2

## Res1_4
designator R?, comment 5.6K
RES 5.6K OHM 1% 1/16W 0402; Manufacturer Part Number: RC0402FR-075K6L; Manufacturer: Yageo; Value: 5.6K; Supplier Part Number: 311-5.6KLRCT-ND
footprint 0402_R (MODIFIED BY DN_MH - 16JAN17;CHECKED BY DN_TN - 18JAN17;CHECKED BY DN_QN - 20FEB19)
pins: 1, 2

## Res1_4_1
designator R?, comment 402K
RES 402K OHM 1% 1/16W 0402; Manufacturer Part Number: RC0402FR-07402KL; Manufacturer: Yageo; Value: 402K; Supplier Part Number: YAG3151CT-ND
footprint 0402_R (MODIFIED BY DN_MH - 16JAN17;CHECKED BY DN_TN - 18JAN17;CHECKED BY DN_QN - 20FEB19)
pins: 1, 2

## Res1_5
designator R?, comment 100K
RES 100K OHM 1% 1/16W 0402; Manufacturer Part Number: RC0402FR-07100KL; Manufacturer: Yageo; Value: 100K; Supplier Part Number: 311-100KLRCT-ND
footprint 0402_R (MODIFIED BY DN_MH - 16JAN17;CHECKED BY DN_TN - 18JAN17;CHECKED BY DN_QN - 20FEB19)
pins: 1, 2

## Res1_5_1
designator R?, comment 80.6K
RES 80.6K OHM 1% 1/16W 0402; Manufacturer Part Number: RC0402FR-0780K6L; Manufacturer: Yageo; Value: 80.6K; Supplier Part Number: 311-80.6KLRCT-ND
footprint 0402_R (MODIFIED BY DN_MH - 16JAN17;CHECKED BY DN_TN - 18JAN17;CHECKED BY DN_QN - 20FEB19)
pins: 1, 2

## Res1_6
designator R?, comment 510K 1%
RES 510K OHM 1% 1/16W 0402; Manufacturer Part Number: RC0402FR-07510KL; Manufacturer: Yageo; Value: 510K 1%; Supplier Part Number: 311-510KLRCT-ND
footprint 0402_R (MODIFIED BY DN_MH - 16JAN17;CHECKED BY DN_TN - 18JAN17;CHECKED BY DN_QN - 20FEB19)
pins: 1, 2

## Res1_6_1
designator R?, comment 5.6K
RES 5.6K OHM 1% 1/16W 0402; Manufacturer Part Number: RC0402FR-075K6L; Manufacturer: Yageo; Value: 5.6K; Supplier Part Number: 311-5.6KLRCT-ND
footprint 0402_R (MODIFIED BY DN_MH - 16JAN17;CHECKED BY DN_TN - 18JAN17;CHECKED BY DN_QN - 20FEB19)
pins: 1, 2

## Res1_7
designator R?, comment 2.2K
RES 2.2K OHM 1% 1/16W 0402; Manufacturer Part Number: RC0402FR-072K2L; Manufacturer: Yageo; Value: 2.2K; Supplier Part Number: 311-2.20KLRCT-ND
footprint 0402_R (MODIFIED BY DN_MH - 16JAN17;CHECKED BY DN_TN - 18JAN17;CHECKED BY DN_QN - 20FEB19)
pins: 1, 2

## Res1_7_1
designator R?, comment 100K
RES 100K OHM 1% 1/16W 0402; Manufacturer Part Number: RC0402FR-07100KL; Manufacturer: Yageo; Value: 100K; Supplier Part Number: 311-100KLRCT-ND
footprint 0402_R (MODIFIED BY DN_MH - 16JAN17;CHECKED BY DN_TN - 18JAN17;CHECKED BY DN_QN - 20FEB19)
pins: 1, 2

## Res1_8
designator R?, comment 499
RES 499 OHM 1% 1/16W 0402; Manufacturer Part Number: RC0402FR-07499RL; Manufacturer: Yageo; Value: 499; Supplier Part Number: 311-499LRCT-ND
footprint 0402_R (MODIFIED BY DN_MH - 16JAN17;CHECKED BY DN_TN - 18JAN17;CHECKED BY DN_QN - 20FEB19)
pins: 1, 2

## Res1_8_1
designator R?, comment 499
RES 499 OHM 1% 1/16W 0402; Manufacturer Part Number: RC0402FR-07499RL; Manufacturer: Yageo; Value: 499; Supplier Part Number: 311-499LRCT-ND
footprint 0402_R (MODIFIED BY DN_MH - 16JAN17;CHECKED BY DN_TN - 18JAN17;CHECKED BY DN_QN - 20FEB19)
pins: 1, 2

## Res1_9
designator R?, comment 2.2K
RES 2.2K OHM 1% 1/16W 0402; Manufacturer Part Number: RC0402FR-072K2L; Manufacturer: Yageo; Value: 2.2K; Supplier Part Number: 311-2.20KLRCT-ND
footprint 0402_R (MODIFIED BY DN_MH - 16JAN17;CHECKED BY DN_TN - 18JAN17;CHECKED BY DN_QN - 20FEB19)
pins: 1, 2

## Res1_9_1
designator R?, comment 6.8K
RES 6.8K OHM 1% 1/16W 0402; Manufacturer Part Number: RC0402FR-076K8L; Manufacturer: Yageo; Value: 6.8K; Supplier Part Number: 311-6.80KLRCT-ND
footprint 0402_R (MODIFIED BY DN_MH - 16JAN17;CHECKED BY DN_TN - 18JAN17;CHECKED BY DN_QN - 20FEB19)
pins: 1, 2

## Res1_10
designator R?, comment 10K
RES 10K OHM 1% 1/16W 0402; Manufacturer Part Number: RC0402FR-0710KL; Manufacturer: Yageo; Value: 10K; Supplier Part Number: 311-10.0KLRCT-ND
footprint 0402_R (MODIFIED BY DN_MH - 16JAN17;CHECKED BY DN_TN - 18JAN17;CHECKED BY DN_QN - 20FEB19)
pins: 1, 2

## Res1_11
designator R?, comment 47K
RES 47K OHM 1% 1/16W 0402; Manufacturer Part Number: RC0402FR-0747KL; Manufacturer: Yageo; Value: 47K; Supplier Part Number: 311-47.0KLRCT-ND
footprint 0402_R (MODIFIED BY DN_MH - 16JAN17;CHECKED BY DN_TN - 18JAN17;CHECKED BY DN_QN - 20FEB19)
pins: 1, 2

## Res1_12
designator R?, comment 2.2K
RES 2.2K OHM 1% 1/16W 0402; Manufacturer Part Number: RC0402FR-072K2L; Manufacturer: Yageo; Value: 2.2K; Supplier Part Number: 311-2.20KLRCT-ND
footprint 0402_R (MODIFIED BY DN_MH - 16JAN17;CHECKED BY DN_TN - 18JAN17;CHECKED BY DN_QN - 20FEB19)
pins: 1, 2

## Res1_13
designator R?, comment 0R
RES 0 OHM JUMPER 1/16W 0402; Manufacturer Part Number: RC0402FR-070RL; Manufacturer: Yageo; Value: 0R; DNP: DNP; Supplier Part Number: 311-0.0LRCT-ND
footprint 0402_R (MODIFIED BY DN_MH - 16JAN17;CHECKED BY DN_TN - 18JAN17;CHECKED BY DN_QN - 20FEB19)
pins: 1, 2

## Res1_14
designator R?, comment 2.2K
RES 2.2K OHM 1% 1/16W 0402; Manufacturer Part Number: RC0402FR-072K2L; Manufacturer: Yageo; Value: 2.2K; Supplier Part Number: 311-2.20KLRCT-ND
footprint 0402_R (MODIFIED BY DN_MH - 16JAN17;CHECKED BY DN_TN - 18JAN17;CHECKED BY DN_QN - 20FEB19)
pins: 1, 2

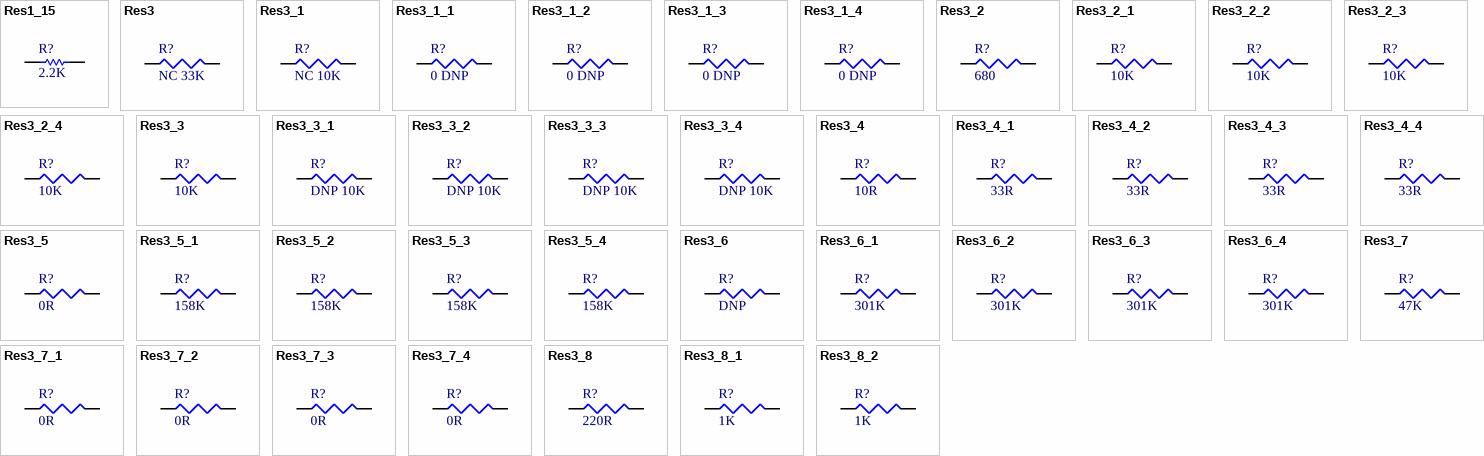
[diagram p33: symbols Res1_15 to Res3_8_2]

## Res1_15
designator R?, comment 2.2K
RES 2.2K OHM 1% 1/16W 0402; Manufacturer Part Number: RC0402FR-072K2L; Manufacturer: Yageo; Value: 2.2K; Supplier Part Number: 311-2.20KLRCT-ND
footprint 0402_R (MODIFIED BY DN_MH - 16JAN17;CHECKED BY DN_TN - 18JAN17;CHECKED BY DN_QN - 20FEB19)
pins: 1, 2